# EAGLE library part ISO1050 (library hsk_2012)
Galvanisch getrennter CAN- Transceiver
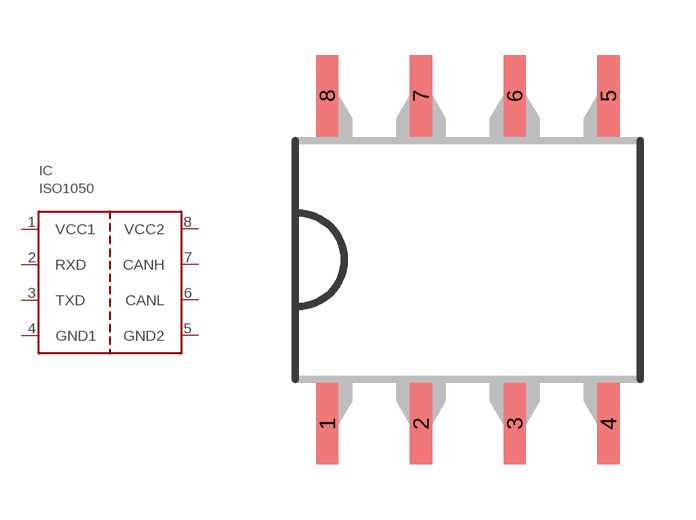
[diagram p4: symbol with the pads of DUB-R-PDSO-G8; footprint DUB-R-PDSO-G8]

Designator prefix IC

## ISO1050_SMD  [DUB-R-PDSO-G8]
1  VCC1
2  RXD
3  TXD
4  GND1
5  GND2
6  CANL
7  CANH
8  VCC2

## Footprint DUB-R-PDSO-G8 (pad centres in mm)
DUB (R-PDSO-G8) Source: http://focus.ti.com/lit/ds/symlink/iso1050.pdf
smd 0.6 x 2.2: 1 -3.81,-4.445; 2 -1.27,-4.445; 3 1.27,-4.445; 4 3.81,-4.445; 5 3.81,4.445; 6 1.27,4.445; 7 -1.27,4.445; 8 -3.81,4.445